# Altium schematic symbol library Speaker.SchLib: 2 symbols
Pins are listed as number, name and electrical type; pins without a type are passive.

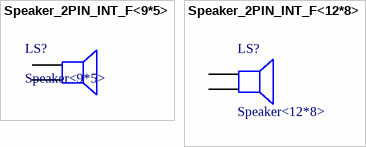
[diagram p0: symbols Speaker_2PIN_INT_F<9*5> to Speaker_2PIN_INT_F<12*8>]

## Speaker_2PIN_INT_F<9*5>
designator LS?, comment Speaker<9*5>
直插蜂鸣器
footprint Speaker<9*5>
pins: 1, 2

## Speaker_2PIN_INT_F<12*8>
designator LS?, comment Speaker<12*8>
直插蜂鸣器; Published: 24-Mar-1999; LatestRevisionDate: 17-Jul-2002; LatestRevisionNote: Re-released for DXP Platform.; PackageReference: PIN2; Publisher: Altium Limited
footprint Speaker<12*8>
pins: 1, 2